# Altium schematic symbol library IP5306IP5306.SCHLIB: 1 symbol
Pins are listed as number, name and electrical type; pins without a type are passive.

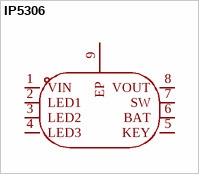
[diagram p0: symbol IP5306]

## IP5306
designator U??  (value not drawn)
Symbol: IP5306
pins: 1 VIN, 2 LED1, 3 LED2, 4 LED3, 5 KEY, 6 BAT, 7 SW, 8 VOUT, 9 EP